# Altium footprint library Module DC To DC.PcbLib: 37 footprints (part 1 of 3)
Each footprint in its own frame and in the unit in brackets; x right, y up, seen from the top. Pads: shape width x height; smd on the part's side, far side on the other; paste and mask are expansions set on the pad; w line width, h text height; cw(c..) or ccw(c..) is an arc to the next point about the centre after c.
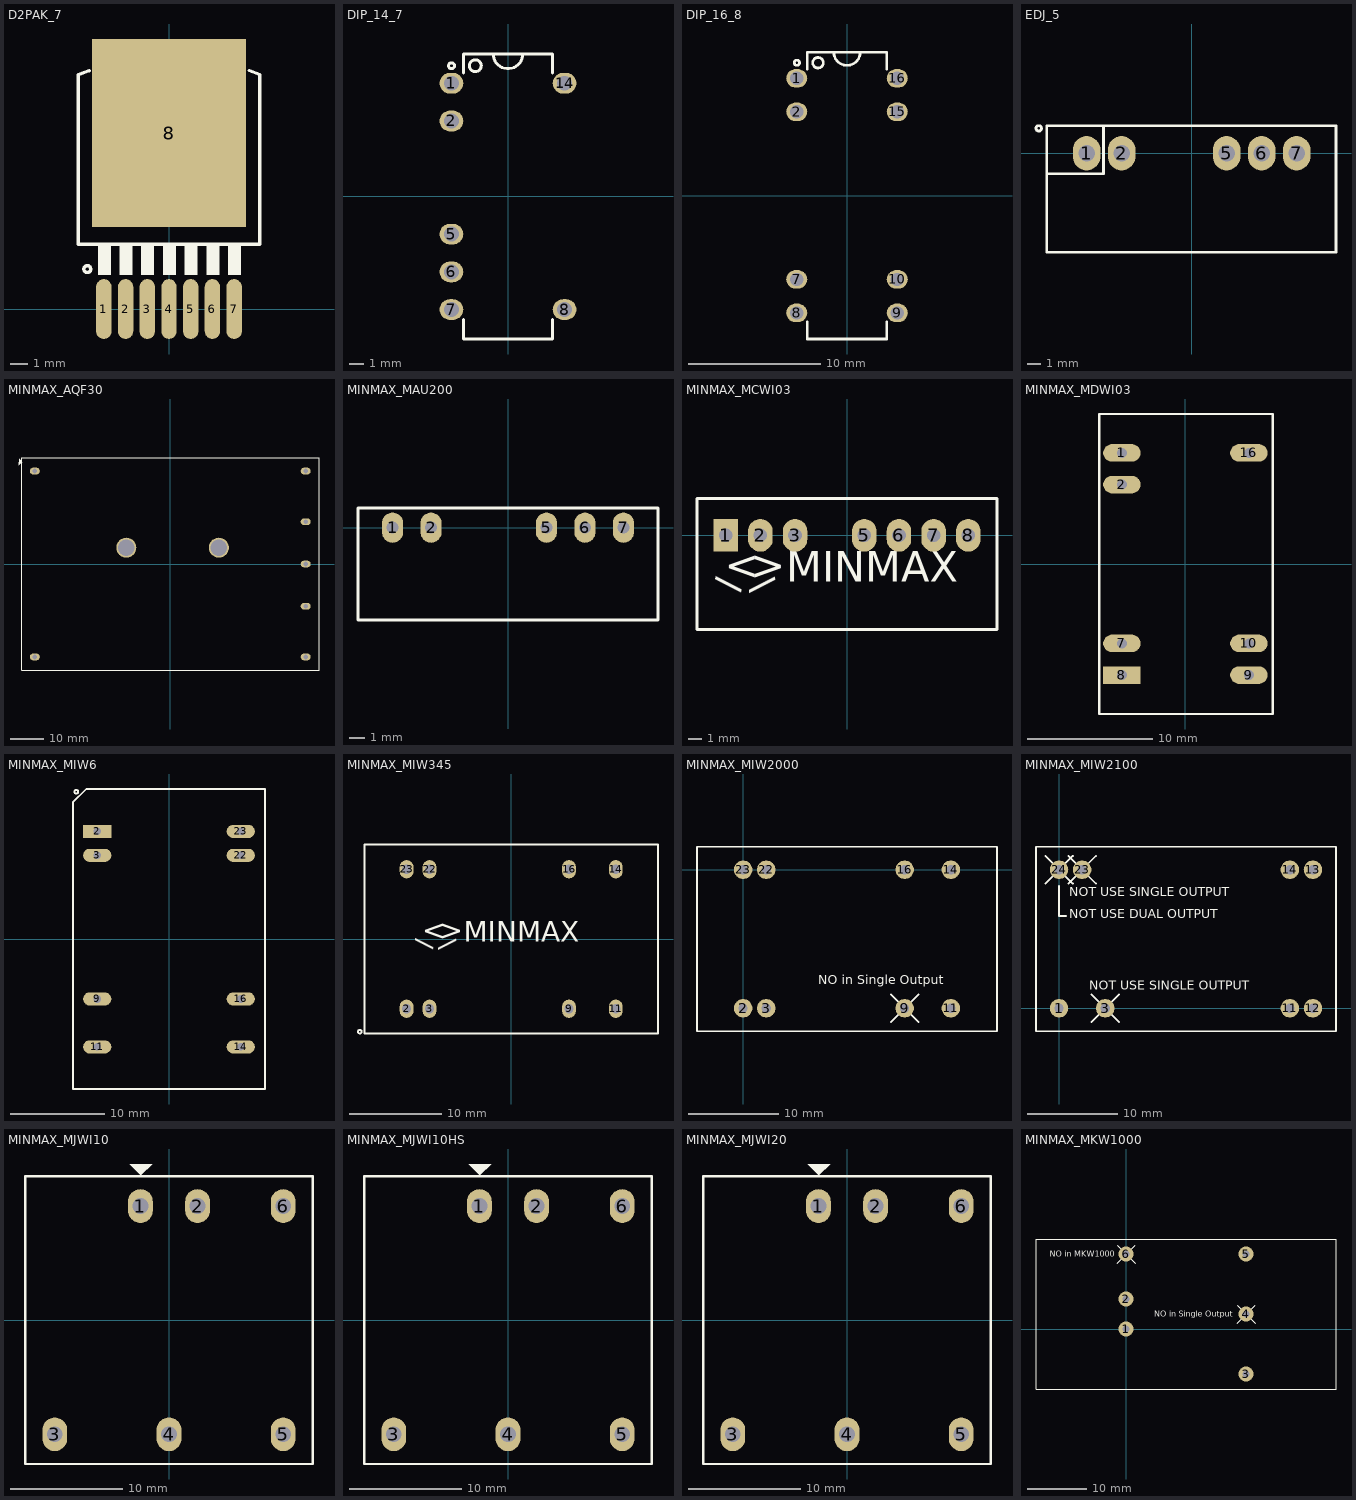
[diagram p0: the footprints below, top view; thin cyan lines are the x and y axes]

## D2PAK_7 [mm] "TO-263-7, D2PAK-7, NDW-7, TO-PMOD-7"
pads (8):
  oval 0.9x3.5 smd: 1(-3.81,0) 2(-2.54,0) 3(-1.27,0) 4(0,0) 5(1.27,0) 6(2.54,0) 7(3.81,0)
  rect 9x11 smd: 8(0,10.3)
Top Overlay:
  circle w0.2: c-4.779,2.34 r0.2
  rectangle: -4.166,2 -3.404,3.8
  rectangle: -2.896,2 -2.134,3.8
  rectangle: -1.626,2 -0.864,3.8
  rectangle: -0.356,2 0.406,3.8
  rectangle: 0.914,2 1.676,3.8
  rectangle: 2.184,2 2.946,3.8
  rectangle: 3.454,2 4.216,3.8
  lines w0.2: -4.658,13.952 -5.3,13.709 -5.3,3.8 5.3,3.8 5.3,13.724 4.684,13.958
3D body "User Library-D2PAK-7.step": height 4.5, standoff 0, extent -5.2,-1.6 5.2,14.074

## DIP_14_7 [mm] "DIP, pitch 2.54mm, 300mil Width"
pads (7):
  oval 1.6x1.4 / inner round 1.4 / far side oval 2.2x1.4 hole 1: 1(-3.81,7.62) 2(-3.81,5.08) 5(-3.81,-2.54) 6(-3.81,-5.08) 7(-3.81,-7.62) 8(3.81,-7.62) 14(3.81,7.62)
Top Overlay:
  circle w0.2: c-3.8,8.8 r0.2
  circle w0.2: c-2.2,8.8 r0.4
  lines w0.2: -3,-8.3 -3,-9.6 3,-9.6 3,-8.3 ; -3,8.3 -3,9.6 3,9.6 3,8.3 ; -1,9.6 ccw(c0,9.6) 1,9.6
3D body "CircuitWorks-DIP-14.step": height 3.81, standoff -3.17, extent -4,-9.525 4,9.525

## DIP_16_8 [mm] "DIP, pitch 2.54mm, 300mil Width 8PIN NVF"
pads (8):
  oval 1.6x1.4 / inner round 1.4 / far side oval 2.2x1.4 hole 1: 1(-3.81,8.89) 2(-3.81,6.35) 7(-3.81,-6.35) 8(-3.81,-8.89) 9(3.81,-8.89) 10(3.81,-6.35) 15(3.81,6.35) 16(3.81,8.89)
Top Overlay:
  circle w0.2: c-2.2,10.07 r0.4
  circle w0.2: c-3.8,10.07 r0.2
  lines w0.2: -3,-9.57 -3,-10.87 3,-10.87 3,-9.57 ; -3,9.57 -3,10.87 3,10.87 3,9.57 ; -1,10.87 ccw(c0,10.87) 1,10.87
3D body "User Library-ISO_DIP_NVF.STEP": height 5.33, standoff -3.81, extent -3.995,-10.67 3.995,10.67

## EDJ_5 [mm] "EDJ R-PDSS-T5 TI 10X7.6mm"
pads (5):
  oval 2x2.5 hole 1.2 mask+0.1: 1(-7.62,0) 2(-5.08,0) 5(2.54,0) 6(5.08,0) 7(7.62,0)
Top Overlay:
  circle w0.2: c-11.1,1.8 r0.2
  lines w0.2: -10.52,-1.5 -6.4,-1.5 -6.4,2 ; -10.52,-7.2 10.48,-7.2 10.48,2 -10.52,2 -10.52,-7.2
3D body: height 10, standoff 0, extent -9.82,-6.4 9.78,-0.2
3D body: height 1, standoff -2, extent -7.87,-0.25 -7.37,0.25
3D body: height 1, standoff -2, extent -5.33,-0.25 -4.83,0.25
3D body: height 1, standoff -2, extent 2.29,-0.25 2.79,0.25
3D body: height 1, standoff -2, extent 4.83,-0.25 5.33,0.25
3D body: height 1, standoff -2, extent 7.37,-0.25 7.87,0.25

## MINMAX_AQF30 [mm] "DC-DC Module, AQF-30"
pads (9):
  oval 3x2 hole 1.4: 1(-40.65,27.9) 2(-40.65,-27.9) 3(40.65,27.9) 4(40.65,12.7) 5(40.65,0) 6(40.65,-12.7) 7(40.65,-27.9)
  round 6 hole 5: ""(-13.2,4.9) ""(14.6,4.9)
Top Overlay:
  region: -44.4,30.6 -45.4,31.6 -45.4,29.6
  lines w0.2: -44.55,-31.9 -44.55,31.9 44.65,31.9 44.65,-31.9 -44.55,-31.9
3D body "AQF-30 3D Mechanical(PCB).stp": height 21.5, standoff -6.7, extent -44.409,-31.759 44.509,31.759

## MINMAX_MAU200 [mm] "DC-DC Module, MAU200"
pads (5):
  oval 1.4x2 hole 0.8: 1(-7.62,0) 2(-5.08,0) 5(2.54,0) 6(5.08,0) 7(7.62,0)
Top Overlay:
  lines w0.2: -9.9,-6.1 -9.9,1.3 9.9,1.3 9.9,-6.1 -9.9,-6.1
3D body "MAU200 3D Mechanical(Vin=15, 24V).stp": height 10, standoff -3.2, extent -9.75,-6 9.75,1.2

## MINMAX_MCWI03 [mm] "DC-DC Module, MINMAX MCWI03, MCWI05"
height 0.254
pads (7):
  rect 1.8x2.4 hole 1: 1(-8.89,0)
  oval 1.8x2.4 hole 1: 2(-6.35,0) 3(-3.81,0) 5(1.27,0) 6(3.81,0) 7(6.35,0) 8(8.89,0)
Top Overlay:
  lines w0.2: -11,-6.9 11,-6.9 11,2.7 -11,2.7 -11,-6.9
  text "\" at -4.707,-3.9 h3.56
  text ">" at -7.057,-3.975 h3.81
  text "<" at -8.957,-3.975 h3.81
  text "MINMAX" at -4.437,-4.125 h3.81
  text "/" at -7.357,-4.275 h3.56
3D body "MCWI05 3D Mechanical.stp": height 11.5, standoff -3.15, extent -10.9,-6.75 10.9,2.55

## MINMAX_MDWI03 [mm] "DC-DC Module, MINMAX MDWI03"
pads (7):
  oval 3x1.4 hole 0.8: 1(-5.08,8.89) 2(-5.08,6.35) 7(-5.08,-6.35) 9(5.08,-8.89) 10(5.08,-6.35) 16(5.08,8.89)
  rect 3x1.4 hole 0.8: 8(-5.08,-8.89)
Top Overlay:
  lines w0.2: -6.9,-12 -6.9,12 7,12 7,-12 -6.9,-12
3D body "MDWI03 3D Mechanical.stp": height 8.3, standoff -3.8, extent -6.847,-11.9 6.848,11.9

## MINMAX_MIW6 [mm] "DC-DC Module, MINMAX MIW6"
pads (8):
  rect 3x1.4 hole 0.8: 2(-7.62,11.43)
  oval 3x1.4 hole 0.8: 3(-7.62,8.89) 9(-7.62,-6.35) 11(-7.62,-11.43) 14(7.62,-11.43) 16(7.62,-6.35) 22(7.62,8.89) 23(7.62,11.43)
Top Overlay:
  circle w0.2: c-9.836,15.637 r0.2
  lines w0.2: -10.2,-15.9 -10.2,14.5 -8.77,15.93 10.2,15.93 10.2,-15.9 -10.2,-15.9
3D body "MIWI06 3D Mechanical.stp": height 10.5, standoff -4.05, extent -10.1,-15.84 10.1,15.84

## MINMAX_MIW345 [mm] "MINMAX_MIW3000 MIW4000 MIW5000"
pads (8):
  oval 1.5x2 hole 1: 2(-11.4,-7.6) 3(-8.9,-7.6) 9(6.3,-7.6) 11(11.4,-7.6) 14(11.4,7.6) 16(6.3,7.6) 22(-8.9,7.6) 23(-11.4,7.6)
Top Overlay:
  circle w0.2: c-16.5,-10.1 r0.2
  lines w0.2: -16,-10.3 16,-10.3 16,10.3 -16,10.3 -16,-10.3
  text "\" at -5.45,-0.827 h3.56
  text ">" at -7.8,-0.902 h3.81
  text "<" at -9.7,-0.902 h3.81
  text "MINMAX" at -5.18,-1.052 h3.81
  text "/" at -8.1,-1.202 h3.56
3D body "User Library-MIW4036.step": height 10.25, standoff -4, extent -15.9,-10.15 15.9,10.15

## MINMAX_MIW2000 [mil]
pads (8):
  round 80 hole 39.37: 2(0,-600) 3(100,-600) 9(700,-600) 11(900,-600) 14(900,0) 16(700,0) 22(100,0) 23(0,0)
Top Overlay:
  lines w7.87: 640,-660 760,-540 ; 640,-540 760,-660 ; -200,-700 1100,-700 1100,100 -200,100 -200,-700
  text "NO in Single Output" at 325,-495 h40

## MINMAX_MIW2100 [mil]
pads (8):
  round 80 hole 39.37: 1(0,0) 3(200,0) 11(1000,0) 12(1100,0) 13(1100,600) 14(1000,600) 23(100,600) 24(0,600)
Top Overlay:
  lines w7.87: -60,540 60,660 ; -60,660 60,540 ; 0,530 0,400 30,400 ; 40,540 160,660 ; 40,660 160,540 ; 140,-60 260,60 ; 140,60 260,-60 ; -100,-100 -100,700 1200,700 1200,-100 -100,-100
  text "NOT USE SINGLE OUTPUT" at 45,485 h40
  text "NOT USE SINGLE OUTPUT" at 130,80 h40
  text "NOT USE DUAL OUTPUT" at 45,390 h40

## MINMAX_MJWI10 [mm] "DC-DC Module, 25.4X25.4mm, =PDQ15-D"
height 1.6
pads (6):
  oval 2.2x3 hole 1.4: 1(-2.54,10.16) 2(2.54,10.16) 3(-10.16,-10.16) 4(0,-10.16) 5(10.16,-10.16) 6(10.16,10.16)
Top Overlay:
  region: -2.5,12.9 -1.5,13.9 -3.5,13.9
  lines w0.2: -12.8,-12.8 12.8,-12.8 12.8,12.8 -12.8,12.8 -12.8,-12.8
3D body "MJWI10 3D Mechanical.stp": height 10.5, standoff -5.66, extent -12.7,-12.7 12.7,12.7

## MINMAX_MJWI10HS [mm] "DC-DC Module, 25.4X25.4mm, with HeatSink"
height 1.6
pads (6):
  oval 2.2x3 hole 1.4: 1(-2.54,10.16) 2(2.54,10.16) 3(-10.16,-10.16) 4(0,-10.16) 5(10.16,-10.16) 6(10.16,10.16)
Top Overlay:
  region: -2.5,12.9 -1.5,13.9 -3.5,13.9
  lines w0.2: -12.8,-12.8 12.8,-12.8 12.8,12.8 -12.8,12.8 -12.8,-12.8
3D body "MJWI10 3D Mechanical_with Heatsink.STEP": height 17, standoff -5.66, extent -14.709,-12.7 14.709,12.7

## MINMAX_MJWI20 [mm] "DC-DC Module, 25.4X25.4mm, =PDQ15-D"
height 1.6
pads (6):
  oval 2.2x3 hole 1.4: 1(-2.54,10.16) 2(2.54,10.16) 3(-10.16,-10.16) 4(0,-10.16) 5(10.16,-10.16) 6(10.16,10.16)
Top Overlay:
  region: -2.5,12.9 -1.5,13.9 -3.5,13.9
  lines w0.2: -12.8,-12.8 12.8,-12.8 12.8,12.8 -12.8,12.8 -12.8,-12.8
3D body "MJWI20 3D Mechanical.stp": height 10.5, standoff -5.66, extent -12.7,-12.7 12.7,12.7

## MINMAX_MKW1000 [mm]
pads (6):
  round 2.54 hole 1.2: 1(0,0) 2(0,5.08) 3(20.32,-7.62) 4(20.32,2.54) 5(20.32,12.7) 6(0,12.7)
Top Overlay:
  lines w0.2: -1.524,11.176 1.524,14.224 ; -1.524,14.224 1.524,11.176 ; 18.796,1.016 21.844,4.064 ; 18.796,4.064 21.844,1.016 ; -15.24,-10.16 -15.24,15.24 35.56,15.24 35.56,-10.16 -15.24,-10.16
  text "NO in Single Output" at 4.8,2.1 h1.02
  text "NO in MKW1000" at -12.9,12.2 h1.02